# EAGLE library part ATTINY85 (library zkseagle)
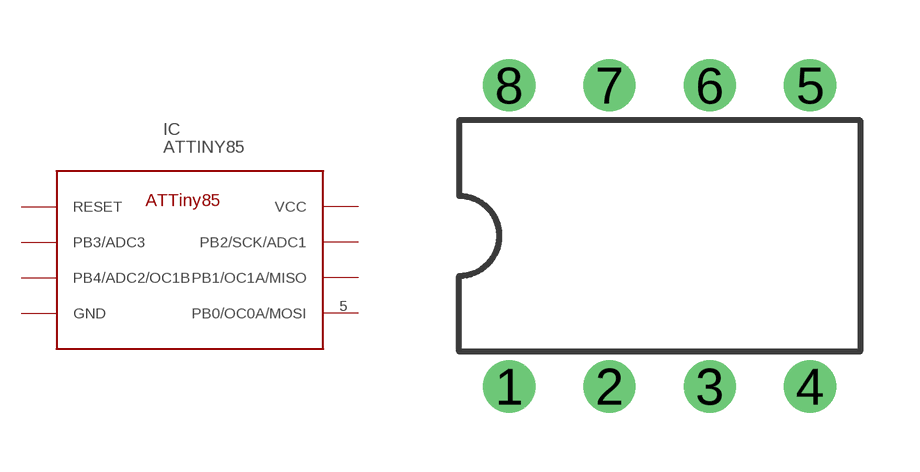
[diagram p16: symbol with the pads of DIL08; footprint DIL08]

Designator prefix IC

## ATTINY85  [DIL08]
1  RESET
2  PB3/ADC3
3  PB4/ADC2/OC1B
4  GND  pwr
5  PB0/OC0A/MOSI
6  PB1/OC1A/MISO
7  PB2/SCK/ADC1
8  VCC  sup

## Footprint DIL08 (pad centres in mm)
Dual In Line Package
drill 0.813 pad 1.27: 1 -3.81,-3.81; 2 -1.27,-3.81; 3 1.27,-3.81; 4 3.81,-3.81; 5 3.81,3.81; 6 1.27,3.81; 7 -1.27,3.81; 8 -3.81,3.81